# EAGLE library part MALE_2X50 (library be_con_jump)
drawn: Mario Blunk / Blunk electronic
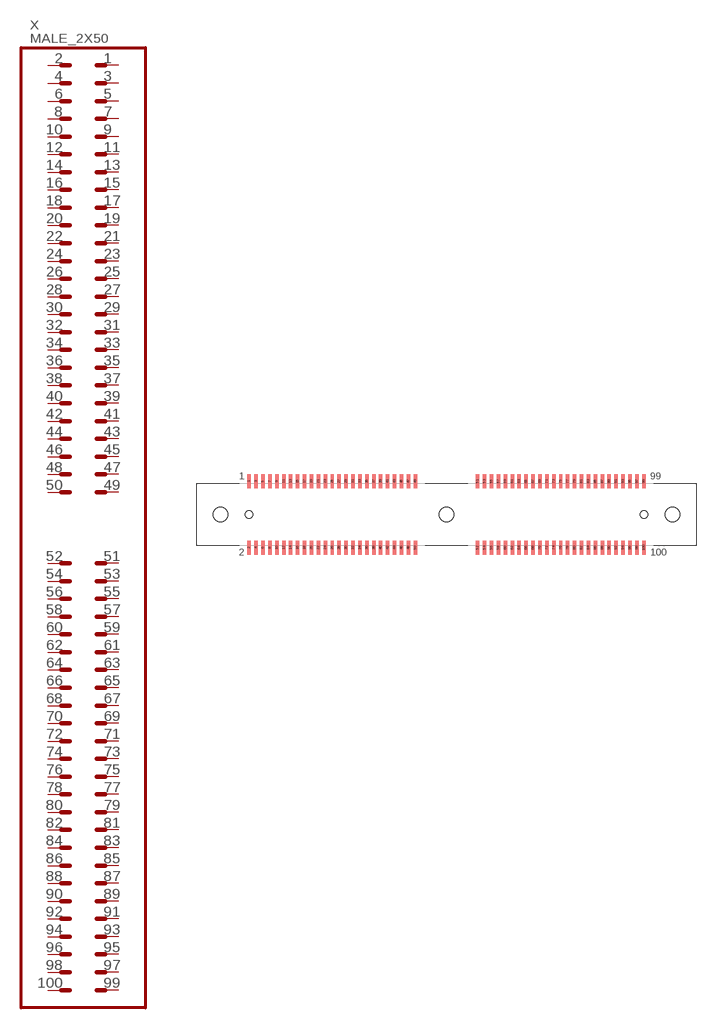
[diagram p9: symbol with the pads of S_SAMTEC_FSI-150-10-L-D-M-AD; footprint S_SAMTEC_FSI-150-10-L-D-M-AD]

Designator prefix X

## MALE_2X50 (BOM: YES; COMMISSIONED: 2013-12-11; PART_CODE_BEL: X_PAC_S_SAMTEC_FSI-150-10-L-D-M-AD)  [S_SAMTEC_FSI-150-10-L-D-M-AD]
1  1  pas
2  2  pas
3  3  pas
4  4  pas
5  5  pas
6  6  pas
7  7  pas
8  8  pas
9  9  pas
10  10  pas
11  11  pas
12  12  pas
13  13  pas
14  14  pas
15  15  pas
16  16  pas
17  17  pas
18  18  pas
19  19  pas
20  20  pas
21  21  pas
22  22  pas
23  23  pas
24  24  pas
25  25  pas
26  26  pas
27  27  pas
28  28  pas
29  29  pas
30  30  pas
31  31  pas
32  32  pas
33  33  pas
34  34  pas
35  35  pas
36  36  pas
37  37  pas
38  38  pas
39  39  pas
40  40  pas
41  41  pas
42  42  pas
43  43  pas
44  44  pas
45  45  pas
46  46  pas
47  47  pas
48  48  pas
49  49  pas
50  50  pas
51  51  pas
52  52  pas
53  53  pas
54  54  pas
55  55  pas
56  56  pas
57  57  pas
58  58  pas
59  59  pas
60  60  pas
61  61  pas
62  62  pas
63  63  pas
64  64  pas
65  65  pas
66  66  pas
67  67  pas
68  68  pas
69  69  pas
70  70  pas
71  71  pas
72  72  pas
73  73  pas
74  74  pas
75  75  pas
76  76  pas
77  77  pas
78  78  pas
79  79  pas
80  80  pas
81  81  pas
82  82  pas
83  83  pas
84  84  pas
85  85  pas
86  86  pas
87  87  pas
88  88  pas
89  89  pas
90  90  pas
91  91  pas
92  92  pas
93  93  pas
94  94  pas
95  95  pas
96  96  pas
97  97  pas
98  98  pas
99  99  pas
100  100  pas

## Footprint S_SAMTEC_FSI-150-10-L-D-M-AD (pad centres in mm)
drawn: Mario Blunk / Blunk electronic edited: 2014-01-02
smd 0.5 x 2: 1 -28.5,4.8; 2 -28.5,-4.8; 3 -27.5,4.8; 4 -27.5,-4.8; 5 -26.5,4.8; 6 -26.5,-4.8; 7 -25.5,4.8; 8 -25.5,-4.8; 9 -24.5,4.8; 10 -24.5,-4.8; 11 -23.5,4.8; 12 -23.5,-4.8; 13 -22.5,4.8; 14 -22.5,-4.8; 15 -21.5,4.8; 16 -21.5,-4.8; 17 -20.5,4.8; 18 -20.5,-4.8; 19 -19.5,4.8; 20 -19.5,-4.8; 21 -18.5,4.8; 22 -18.5,-4.8; 23 -17.5,4.8; 24 -17.5,-4.8; 25 -16.5,4.8; 26 -16.5,-4.8; 27 -15.5,4.8; 28 -15.5,-4.8; 29 -14.5,4.8; 30 -14.5,-4.8; 31 -13.5,4.8; 32 -13.5,-4.8; 33 -12.5,4.8; 34 -12.5,-4.8; 35 -11.5,4.8; 36 -11.5,-4.8; 37 -10.5,4.8; 38 -10.5,-4.8; 39 -9.5,4.8; 40 -9.5,-4.8; 41 -8.5,4.8; 42 -8.5,-4.8; 43 -7.5,4.8; 44 -7.5,-4.8; 45 -6.5,4.8; 46 -6.5,-4.8; 47 -5.5,4.8; 48 -5.5,-4.8; 49 -4.5,4.8; 50 -4.5,-4.8; 51 4.5,4.8; 52 4.5,-4.8; 53 5.5,4.8; 54 5.5,-4.8; 55 6.5,4.8; 56 6.5,-4.8; 57 7.5,4.8; 58 7.5,-4.8; 59 8.5,4.8; 60 8.5,-4.8; 61 9.5,4.8; 62 9.5,-4.8; 63 10.5,4.8; 64 10.5,-4.8; 65 11.5,4.8; 66 11.5,-4.8; 67 12.5,4.8; 68 12.5,-4.8; 69 13.5,4.8; 70 13.5,-4.8; 71 14.5,4.8; 72 14.5,-4.8; 73 15.5,4.8; 74 15.5,-4.8; 75 16.5,4.8; 76 16.5,-4.8; 77 17.5,4.8; 78 17.5,-4.8; 79 18.5,4.8; 80 18.5,-4.8; 81 19.5,4.8; 82 19.5,-4.8; 83 20.5,4.8; 84 20.5,-4.8; 85 21.5,4.8; 86 21.5,-4.8; 87 22.5,4.8; 88 22.5,-4.8; 89 23.5,4.8; 90 23.5,-4.8; 91 24.5,4.8; 92 24.5,-4.8; 93 25.5,4.8; 94 25.5,-4.8; 95 26.5,4.8; 96 26.5,-4.8; 97 27.5,4.8; 98 27.5,-4.8; 99 28.5,4.8; 100 28.5,-4.8
hole 2.1 at 32.62,0
hole 2.1 at -32.62,0
hole 2.1 at 0,0
hole 1.1 at 28.5,0
hole 1.1 at -28.5,0